# Altium schematic symbol library active.SchLib: 10 symbols
Pins are listed as number, name and electrical type; pins without a type are passive.

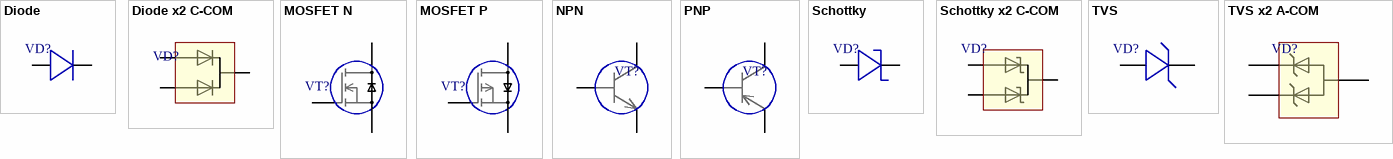
[diagram p0: symbols Diode to TVS x2 A-COM]

## Diode
designator VD?
Diode
footprint DO214AA/SMB (SMB diode package)
footprint DO214AC/SMA (SMA diode package)
pins: A Anode, C Cathode

## Diode x2 C-COM
designator VD?
Diode x2 C-COM
footprint TO252AA/DPAK (TO252AA/DPAK package)
footprint SOT23-3 (SOT23, 3 pins)
pins: 1A, 2A, C

## MOSFET N
designator VT?
MOSFET N
footprint TO263-2/D2PAK-2 (TO263/D2PAK package); pin to pad D>3 G>1 S>2
footprint SOT23-3 (SOT23, 3 pins); pin to pad D>3 G>1 S>2
pins: D "Drain", G "Gate", S "Source"

## MOSFET P
designator VT?
MOSFET P
pins: D "Drain", G "Gate", S "Source"

## NPN
designator VT?
NPN
pins: B "Base", C "Collector", E "Emitter"

## PNP
designator VT?
PNP
pins: B "Base", C "Collector", E "Emitter"

## Schottky
designator VD?
Schottky diode
footprint DO214AC/SMA (SMA diode package)
footprint DO214AA/SMB (SMB diode package)
pins: A, C C`

## Schottky x2 C-COM
designator VD?
Schottky x2 C-COM
footprint TO252AA/DPAK (TO252AA/DPAK package)
footprint SOT23-3 (SOT23, 3 pins)
pins: 1A, 2A, C

## TVS
designator VD?
TVS
footprint SOT23-3 (SOT23, 3 pins); pin to pad A>1 C>3
pins: A, C

## TVS x2 A-COM
designator VD?
TVS x2
footprint SOT23-3 (SOT23, 3 pins); pin to pad 1C>1 2C>2 A>3
pins: 1C, 2C, A